# Altium schematic symbol library Discrete_Oscillators_Cristal_GOST.SchLib: 2 symbols
Pins are listed as number, name and electrical type; pins without a type are passive.

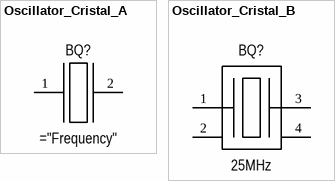
[diagram p0: symbols Oscillator_Cristal_A to Oscillator_Cristal_B]

## Oscillator_Cristal_A
designator BQ?
pins: 1, 2

## Oscillator_Cristal_B
designator BQ?, comment 25MHz
Manufacturer: Suntsu; Part name: SXT32422AA16-25.000MT; Group: Discrete; ESR: 80 Ohms; Frequency tolerance: ±50ppm; Load capacitance: 18pF; Package: Crystal SMD 4P 3.2x2.5; Frequency: 25MHz; Height: 0.80mm; Operating temperature: -40°C +85°C; Mounting type: Surface mount; Dimension: 3.20mm x 2.50mm
pins: 1, 2, 3, 4